# Altium footprint library SC-70-5_L2.1-W1.3-P0.65-LS2.1-BR_2021-01-09.PcbLib: 1 footprints
Each footprint in its own frame and in the unit in brackets; x right, y up, seen from the top. Pads: shape width x height; smd on the part's side, far side on the other; paste and mask are expansions set on the pad; w line width, h text height; cw(c..) or ccw(c..) is an arc to the next point about the centre after c.
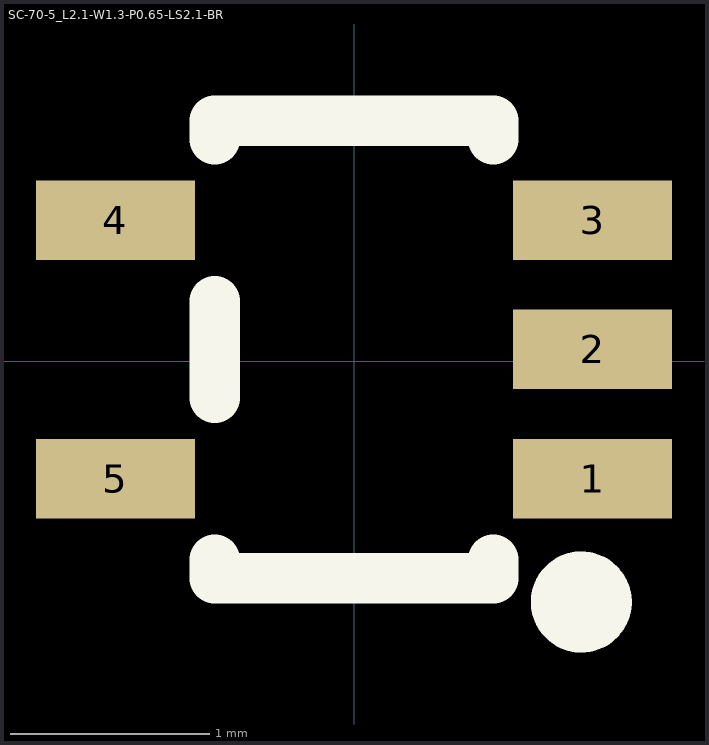
[diagram p0: the footprint, top view; thin cyan lines are the x and y axes]

## SC-70-5_L2.1-W1.3-P0.65-LS2.1-BR [mm]
pads (5):
  rect 0.8x0.4 smd: 1(1.2,-0.59) 2(1.2,0.06) 3(1.2,0.71) 4(-1.2,0.71) 5(-1.2,-0.59)
Top Overlay:
  circle w0.254: c1.143,-1.21 r0.127
  lines w0.254: -0.7,-0.998 -0.7,-1.09 0.7,-1.09 0.7,-0.998 ; -0.7,-0.182 -0.7,0.302 ; -0.7,1.118 -0.7,1.21 0.7,1.21 0.7,1.118